# Altium footprint library CentralNode.PcbLib: 16 footprints
Each footprint in its own frame and in the unit in brackets; x right, y up, seen from the top. Pads: shape width x height; smd on the part's side, far side on the other; paste and mask are expansions set on the pad; w line width, h text height; cw(c..) or ccw(c..) is an arc to the next point about the centre after c.
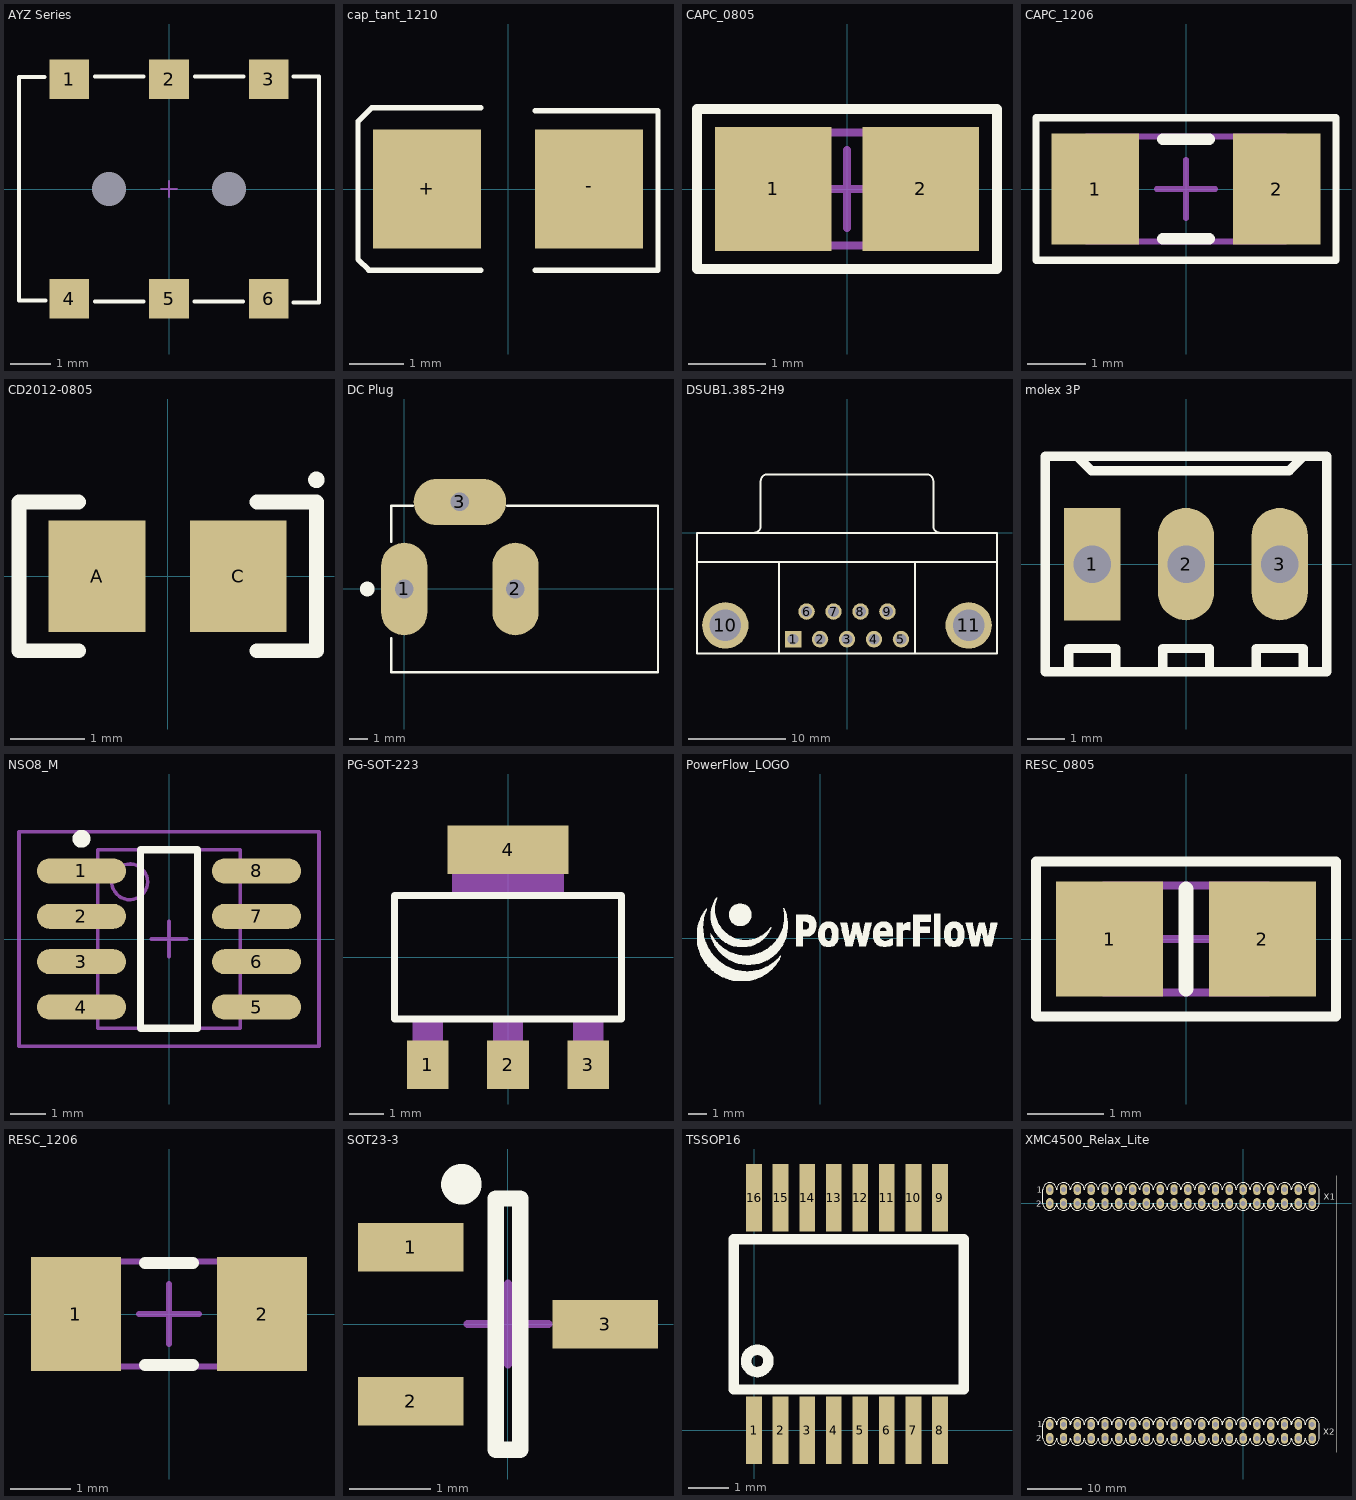
[diagram p0: the footprints below, top view; thin cyan lines are the x and y axes]

## AYZ Series [mm]
height 1.73
pads (8):
  rect 1x1 smd: 1(-2.5,2.75) 2(0,2.75) 3(2.5,2.75) 4(-2.5,-2.75) 5(0,-2.75) 6(2.5,-2.75)
  round 0 hole 0.85 unplated: ""(-1.5,0) ""(1.5,0)
Top Overlay:
  lines w0.1: -3.124,2.809 -3.759,2.809 -3.759,-2.794 -3.594,-2.794 -3.264,-2.794 -3.099,-2.794 ; -1.854,-2.819 -0.635,-2.819 ; -1.854,2.819 -0.635,2.819 ; 0.635,-2.819 1.854,-2.819 ; 0.646,2.819 1.865,2.819 ; 3.124,-2.845 3.759,-2.845 ; 3.124,2.818 3.759,2.818 ; 3.759,-2.809 3.759,2.794
Mechanical 15:
  lines w0.05: -0.2,0 0.2,0 ; 0,-0.2 0,0.2
3D body "AYZ0102AGRLC.stp": height 1.5, standoff -0.5, extent -3.6,-2.49 3.6,2.8

## cap_tant_1210 [mm] "Capacitor, SM Tantalum; Body 3.5 x 2.8 mm (LxW typ)"
height 2.5
pads (2):
  rect 2x2.2 smd: +(-1.5,0) -(1.5,0)
Top Overlay:
  lines w0.1: -0.5,-1.5 -2.575,-1.5 -2.775,-1.3 -2.775,1.25 -2.525,1.5 -0.5,1.5 ; 0.5,-1.5 2.775,-1.5 2.775,1.45 0.5,1.45
3D body "User Library-AVX_BCASE.STEP": height 2.03, standoff 0, extent -1.85,-1.465 1.85,1.465

## CAPC_0805 [mm] "Chip Capacitor, Body 2.0x1.3mm, IPC Low Density"
height 1.1
pads (2):
  rect 1.5x1.6 smd: 1(-0.95,0) 2(0.95,0)
Top Overlay:
  lines w0.127: -1.929,-1.029 1.929,-1.029 1.929,1.029 -1.929,1.029 -1.929,-1.029
Mechanical 13:
  lines w0.1: -1.1,-0.725 -1.1,0.725 1.1,0.725 1.1,-0.725 -1.1,-0.725
Mechanical 15:
  lines w0.1: -0.5,0 0.5,0 ; 0,-0.5 0,0.5
3D body: height 1.1, standoff 0, extent -1.1,-0.725 1.1,0.725

## CAPC_1206 [mm] "Chip Capacitor, Body 3.2x1.6mm, IPC Low Density"
height 1.35
pads (2):
  rect 1.5x1.9 smd: 1(-1.55,0) 2(1.55,0)
Top Overlay:
  lines w0.127: -2.565,-1.215 2.565,-1.215 2.565,1.215 -2.565,1.215 -2.565,-1.215
  lines w0.2: -0.4,-0.85 0.4,-0.85 ; -0.4,0.85 0.4,0.85
Mechanical 13:
  lines w0.1: -1.7,-0.9 -1.7,0.9 1.7,0.9 1.7,-0.9 -1.7,-0.9
Mechanical 15:
  lines w0.1: -0.5,0 0.5,0 ; 0,-0.5 0,0.5
3D body: height 1.35, standoff 0, extent -1.7,-0.9 1.7,0.9

## CD2012-0805 [mm] "Chip Diode; Body 2.0 x 1.3 mm (LxW typ)"
height 1.1
pads (2):
  rect 1.3x1.5 smd: A(-0.95,0) C(0.95,0)
Top Overlay:
  circle w0.15: c2,1.3 r0.035
  lines w0.2: -1.2,-1 -2,-1 -2,1 -1.2,1 ; 1.2,-1 2,-1 2,1 1.2,1
3D body "User Library-CHIPLED-0805.STEP": height 0.9, standoff -0.01, extent -1.05,-0.675 1.05,0.675

## DC Plug [mm] "5.5mmx2.1mm"
pads (3):
  oval 2.5x5 hole 1 square: 1(0,0) 2(6,0)
  oval 5x2.5 hole 1 square: 3(3,4.7)
Top Overlay:
  circle w0.4: c-2,0 r0.2
  lines w0.127: -0.7,-2.65 -0.7,-4.5 13.7,-4.5 13.7,4.5 5.55,4.5 ; -0.7,2.55 -0.7,4.5 0.45,4.5
3D body "User Library-PJ-002AH.STEP": height 11.05, standoff -3.45, extent -0.666,-4.686 13.734,4.714

## DSUB1.385-2H9 [mm] "Connector; D Subminiature; 9 Position; Right Angle; Pitch 1.385 mm"
height 12.75
pads (11):
  rect 1.69x1.69 hole 1.09: 1(-5.54,-10.92)
  round 1.69 hole 1.09: 2(-2.77,-10.92) 3(0,-10.92) 4(2.77,-10.92) 5(5.54,-10.92) 6(-4.155,-8.08) 7(-1.385,-8.08) 8(1.385,-8.08) 9(4.155,-8.08)
  round 4.76 hole 3.26: 10(-12.495,-9.5) 11(12.495,-9.5)
Top Overlay:
  lines w0.2: -15.4,-3 15.4,-3 ; -9.56,0.005 ccw(c-9.56,0.7) -8.865,0.7 -8.865,5.3 ; -8.86,5.305 cw(c-8.165,5.305) -8.165,6 8.165,6 cw(c8.165,5.305) 8.86,5.305 ; -7,-12.4 -7,-3 ; 7,-12.4 7,-3 ; 8.865,5.3 8.865,0.7 ccw(c9.56,0.7) 9.56,0.005 ; -15.4,-12.4 15.4,-12.4 15.4,0 -15.4,0 -15.4,-12.4

## molex 3P [mil]
pads (3):
  rect 60x120 hole 40: 1(-100,0)
  oval 60x120 hole 40: 2(0,0) 3(100,0)
Top Overlay:
  lines w10: -125,-115 -125,-90 -75,-90 -75,-115 ; -116.34,115.16 -100.79,99.61 -100,99.61 110,99.61 125.39,115 ; -25,-115 -25,-90 25,-90 25,-115 ; 75,-115 75,-90 125,-90 125,-115 ; -150,-115 -150,0 -150,115 150,115 150,0 150,-115 -150,-115
Mechanical 16:
  rectangle: -110,-9.99 -90,10.01
  rectangle: -10,-9.99 10,10.01
  rectangle: 90,-9.99 110,10.01
3D body "SW3dPS-Molex - 3-Pin Header with Lock (0.100in pitch).STEP": height 413.18, standoff -146.66, extent -151,-124 149,126

## NSO8_M [mm] "SOIC, 8-Leads, Body 4.9x3.9mm, Pitch 1.27mm, IPC Low Density"
height 1.75
pads (8):
  oval 2.5x0.7 smd: 1(-2.45,1.905) 2(-2.45,0.635) 3(-2.45,-0.635) 4(-2.45,-1.905) 5(2.45,-1.905) 6(2.45,-0.635) 7(2.45,0.635) 8(2.45,1.905)
Top Overlay:
  circle w0.25: c-2.45,2.805 r0.125
  lines w0.2: -0.8,-2.5 0.8,-2.5 0.8,2.5 -0.8,2.5 -0.8,-2.5
Mechanical 13:
  circle w0.1: c-1.1,1.6 r0.5
  lines w0.1: -2,-2.5 2,-2.5 2,2.5 -2,2.5 -2,-2.5
Mechanical 15:
  lines w0.1: -0.5,0 0.5,0 ; 0,-0.5 0,0.5 ; -4.2,-3 4.2,-3 4.2,3 -4.2,3 -4.2,-3
3D body: height 1.75, standoff 0, extent -2,-2.5 2,2.5

## PG-SOT-223 [mm]
pads (4):
  rect 1.2x1.4 smd: 1(-2.311,-3.099) 2(0,-3.099) 3(2.311,-3.099)
  rect 3.5x1.4 smd: 4(0,3.099)
Top Overlay:
  lines w0.203: -3.277,-1.778 3.277,-1.778 3.277,1.778 -3.277,1.778 -3.277,-1.778
Mechanical 1:
  region: -1.601,3.658 1.6,3.658 1.6,1.804 -1.601,1.804
  region: -0.432,-1.803 0.432,-1.803 0.432,-3.662 -0.432,-3.662
  region: -2.747,-1.803 -1.88,-1.803 -1.88,-3.663 -2.747,-3.663
  region: 1.883,-1.803 2.743,-1.803 2.743,-3.663 1.883,-3.663
  region: -1.603,3.658 1.6,3.658 1.6,1.807 -1.603,1.807
  region: -0.432,-1.803 0.432,-1.803 0.432,-3.66 -0.432,-3.66
  region: -2.748,-1.803 -1.88,-1.803 -1.88,-3.664 -2.748,-3.664
  region: 1.881,-1.803 2.743,-1.803 2.743,-3.66 1.881,-3.66
3D body "User Library-SOT223-3.STEP": height 1.7, standoff 0, extent -3.25,-3.5 3.25,3.5

## PowerFlow_LOGO [mm] "16.5 x 6.5 mm"
Top Overlay:
  drawing of 1422 lines, arcs and shapes, not listed

## RESC_0805 [mm] "Chip Resistor, Body 2.0x1.3mm, IPC Low Density"
height 0.65
pads (2):
  rect 1.4x1.5 smd: 1(-1,0) 2(1,0)
Top Overlay:
  lines w0.127: -1.965,-1.015 -1.965,1.015 1.965,1.015 1.965,-1.015 -1.965,-1.015
  lines w0.2: 0,-0.65 0,0.65
Mechanical 13:
  lines w0.1: -1.075,-0.7 1.075,-0.7 1.075,0.7 -1.075,0.7 -1.075,-0.7
Mechanical 15:
  lines w0.1: -0.5,0 0.5,0 ; 0,-0.5 0,0.5
3D body: height 0.65, standoff 0, extent -1.075,-0.7 1.075,0.7

## RESC_1206 [mm] "Chip Resistor, Body 3.2x1.6mm, IPC Low Density"
height 0.71
pads (2):
  rect 1.5x1.9 smd: 1(-1.55,0) 2(1.55,0)
Top Overlay:
  lines w0.2: -0.4,-0.85 0.4,-0.85 ; -0.4,0.85 0.4,0.85
Mechanical 13:
  lines w0.1: -1.675,-0.875 -1.675,0.875 1.675,0.875 1.675,-0.875 -1.675,-0.875
Mechanical 15:
  lines w0.1: -0.5,0 0.5,0 ; 0,-0.5 0,0.5
3D body: height 0.71, standoff 0, extent -1.675,-0.875 1.675,0.875

## SOT23-3 [mm] "SOT23, 3"
height 1.45
pads (3):
  rect 1.3x0.6 smd mask+0.05: 1(-1.2,0.95) 2(-1.2,-0.95) 3(1.2,0)
Top Overlay:
  circle w0.25: c-0.575,1.725 r0.125
  lines w0.2: -0.15,-1.55 -0.15,1.55 0.15,1.55 0.15,-1.55 -0.15,-1.55
Mechanical 15:
  lines w0.1: -0.5,0 0.5,0 ; 0,-0.5 0,0.5
3D body "User Library-3-lead sot23-3.step": height 1, standoff -0.02, extent -1.325,-1.46 1.151,1.46

## TSSOP16 [mm]
pads (16):
  rect 0.39x1.651 smd: 1(0,0) 2(0.65,0) 3(1.3,0) 4(1.95,0) 5(2.6,0) 6(3.25,0) 7(3.9,0) 8(4.55,0) 9(4.55,5.7) 10(3.9,5.7) 11(3.25,5.7) 12(2.6,5.7) 13(1.95,5.7) 14(1.3,5.7) 15(0.65,5.7) 16(0,5.7)
Top Overlay:
  lines w0.254: 0.349,1.723 ccw(c0.076,1.7) 0.35,1.7 ; -0.5,1 -0.5,4.682 5.133,4.682 5.133,1 -0.5,1
3D body "User Library-AS3933-BTST.step": height 1.06, standoff -0.01, extent -0.244,-0.531 4.856,5.969

## XMC4500_Relax_Lite [mm]
pads (80):
  oval 1.356x2 hole 0.9: X1.1(-35.56,2.54) X1.2(-35.56,0) X1.3(-33.02,2.54) X1.4(-33.02,0) X1.5(-30.48,2.54) X1.6(-30.48,0) X1.7(-27.94,2.54) X1.8(-27.94,0) X1.9(-25.4,2.54) X1.10(-25.4,0) X1.11(-22.86,2.54) X1.12(-22.86,0) X1.13(-20.32,2.54) X1.14(-20.32,0) X1.15(-17.78,2.54) X1.16(-17.78,0) X1.17(-15.24,2.54) X1.18(-15.24,0) X1.19(-12.7,2.54) X1.20(-12.7,0) X1.21(-10.16,2.54) X1.22(-10.16,0) X1.23(-7.62,2.54) X1.24(-7.62,0) X1.25(-5.08,2.54) X1.26(-5.08,0) X1.27(-2.54,2.54) X1.28(-2.54,0) X1.29(0,2.54) X1.30(0,0) X1.31(2.54,2.54) X1.32(2.54,0) X1.33(5.08,2.54) X1.34(5.08,0) X1.35(7.62,2.54) X1.36(7.62,0) X1.37(10.16,2.54) X1.38(10.16,0) X1.39(12.7,2.54) X1.40(12.7,0) X2.1(-35.56,-40.64) X2.2(-35.56,-43.18) X2.3(-33.02,-40.64) X2.4(-33.02,-43.18) X2.5(-30.48,-40.64) X2.6(-30.48,-43.18) X2.7(-27.94,-40.64) X2.8(-27.94,-43.18) X2.9(-25.4,-40.64) X2.10(-25.4,-43.18) X2.11(-22.86,-40.64) X2.12(-22.86,-43.18) X2.13(-20.32,-40.64) X2.15(-17.78,-40.64) X2.16(-17.78,-43.18) X2.17(-15.24,-40.64) X2.18(-15.24,-43.18) X2.19(-12.7,-40.64) X2.20(-12.7,-43.18) X2.21(-10.16,-40.64) X2.22(-10.16,-43.18) X2.23(-7.62,-40.64) X2.24(-7.62,-43.18) X2.25(-5.08,-40.64) X2.26(-5.08,-43.18) X2.27(-2.54,-40.64) X2.28(-2.54,-43.18) X2.29(0,-40.64) X2.30(0,-43.18) X2.31(2.54,-40.64) X2.32(2.54,-43.18) X2.33(5.08,-40.64) X2.34(5.08,-43.18) X2.35(7.62,-40.64) X2.36(7.62,-43.18) X2.37(10.16,-40.64) X2.38(10.16,-43.18) X2.39(12.7,-40.64) X2.40(12.7,-43.18)
  oval 1.356x2 hole 0.813: X2.14(-20.32,-43.18)
Top Overlay:
  pour cut-out: 17.08,-45.72 17.08,5.08
  lines w0.127: -36.83,-43.18 ccw(c-35.56,-43.18) -34.29,-43.18 ccw(c-33.02,-43.18) -31.75,-43.18 ccw(c-30.48,-43.18) -29.21,-43.18 ccw(c-27.94,-43.18) -26.67,-43.18 ccw(c-25.4,-43.18) -24.13,-43.18 ccw(c-22.86,-43.18) -21.59,-43.18 ccw(c-20.32,-43.18) -19.05,-43.18 ccw(c-17.78,-43.18) -16.51,-43.18 ccw(c-15.24,-43.18) -13.97,-43.18 ccw(c-12.7,-43.18) -11.43,-43.18 ccw(c-10.16,-43.18) -8.89,-43.18 ccw(c-7.62,-43.18) -6.35,-43.18 ccw(c-5.08,-43.18) -3.81,-43.18 ccw(c-2.54,-43.18) -1.27,-43.18 ccw(c0,-43.18) 1.27,-43.18 ccw(c2.54,-43.18) 3.81,-43.18 ccw(c5.08,-43.18) 6.35,-43.18 ccw(c7.62,-43.18) 8.89,-43.18 ccw(c10.16,-43.18) 11.43,-43.18 ccw(c12.7,-43.18) 13.97,-43.18 13.97,-40.64 ccw(c12.7,-40.64) 11.43,-40.64 ccw(c10.16,-40.64) 8.89,-40.64 ccw(c7.62,-40.64) 6.35,-40.64 ccw(c5.08,-40.64) 3.81,-40.64 ccw(c2.54,-40.64) 1.27,-40.64 ccw(c0,-40.64) -1.27,-40.64 ccw(c-2.54,-40.64) -3.81,-40.64 ccw(c-5.08,-40.64) -6.35,-40.64 ccw(c-7.62,-40.64) -8.89,-40.64 ccw(c-10.16,-40.64) -11.43,-40.64 ccw(c-12.7,-40.64) -13.97,-40.64 ccw(c-15.24,-40.64) -16.51,-40.64 ccw(c-17.78,-40.64) -19.05,-40.64 ccw(c-20.32,-40.64) -21.59,-40.64 ccw(c-22.86,-40.64) -24.13,-40.64 ccw(c-25.4,-40.64) -26.67,-40.64 ccw(c-27.94,-40.64) -29.21,-40.64 ccw(c-30.48,-40.64) -31.75,-40.64 ccw(c-33.02,-40.64) -34.29,-40.64 ccw(c-35.56,-40.64) -36.83,-40.64 -36.83,-43.18 ; -36.83,0 ccw(c-35.56,0) -34.29,0 ccw(c-33.02,0) -31.75,0 ccw(c-30.48,0) -29.21,0 ccw(c-27.94,0) -26.67,0 ccw(c-25.4,0) -24.13,0 ccw(c-22.86,0) -21.59,0 ccw(c-20.32,0) -19.05,0 ccw(c-17.78,0) -16.51,0 ccw(c-15.24,0) -13.97,0 ccw(c-12.7,0) -11.43,0 ccw(c-10.16,0) -8.89,0 ccw(c-7.62,0) -6.35,0 ccw(c-5.08,0) -3.81,0 ccw(c-2.54,0) -1.27,0 ccw(c0,0) 1.27,0 ccw(c2.54,0) 3.81,0 ccw(c5.08,0) 6.35,0 ccw(c7.62,0) 8.89,0 ccw(c10.16,0) 11.43,0 ccw(c12.7,0) 13.97,0 13.97,2.54 ccw(c12.7,2.54) 11.43,2.54 ccw(c10.16,2.54) 8.89,2.54 ccw(c7.62,2.54) 6.35,2.54 ccw(c5.08,2.54) 3.81,2.54 ccw(c2.54,2.54) 1.27,2.54 ccw(c0,2.54) -1.27,2.54 ccw(c-2.54,2.54) -3.81,2.54 ccw(c-5.08,2.54) -6.35,2.54 ccw(c-7.62,2.54) -8.89,2.54 ccw(c-10.16,2.54) -11.43,2.54 ccw(c-12.7,2.54) -13.97,2.54 ccw(c-15.24,2.54) -16.51,2.54 ccw(c-17.78,2.54) -19.05,2.54 ccw(c-20.32,2.54) -21.59,2.54 ccw(c-22.86,2.54) -24.13,2.54 ccw(c-25.4,2.54) -26.67,2.54 ccw(c-27.94,2.54) -29.21,2.54 ccw(c-30.48,2.54) -31.75,2.54 ccw(c-33.02,2.54) -34.29,2.54 ccw(c-35.56,2.54) -36.83,2.54 -36.83,0
  text "2" at -38.085,-0.555 h1.14
  text "1" at -37.91,1.985 h1.14
  text "X1" at 14.844,0.715 h1.14
  text "X2" at 14.744,-42.51 h1.14
  text "1" at -37.885,-41.14 h1.14
  text "2" at -38.06,-43.68 h1.14